# EAGLE library part DIP-SCREW-TERMINAL(7P-2.54) (library Seeed-OPL-Connector)
320110144
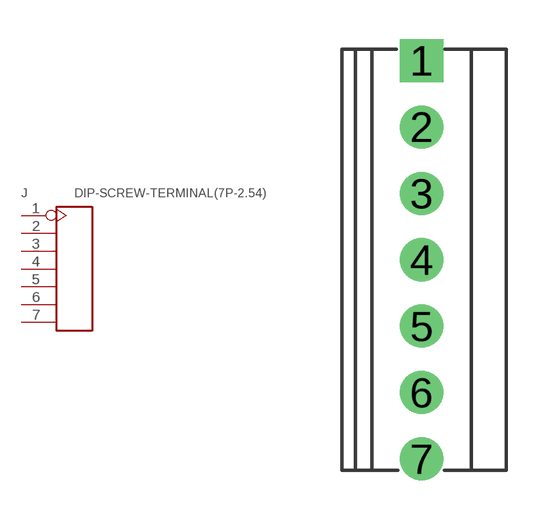
[diagram p148: symbol with the pads of H7-2.54-16.14X6.3MM; footprint H7-2.54-16.14X6.3MM]

Designator prefix J

## DIP-SCREW-TERMINAL(7P-2.54) (MPN: GS019-7P-1; VALUE: 7p-2.54)  [H7-2.54-16.14X6.3MM]
1  1
2  2
3  3
4  4
5  5
6  6
7  7

## Footprint H7-2.54-16.14X6.3MM (pad centres in mm)
drill 0.889 pad 1.651 square: 1 0,7.62
drill 0.889 pad 1.651: 2 0,5.08; 3 0,2.54; 4 0,0; 5 0,-2.54; 6 0,-5.08; 7 0,-7.62